# Altium footprint library micro-siemens.PCBLIB: 57 footprints (part 5 of 5)
Each footprint in its own frame and in the unit in brackets; x right, y up, seen from the top. Pads: shape width x height; smd on the part's side, far side on the other; paste and mask are expansions set on the pad; w line width, h text height; cw(c..) or ccw(c..) is an arc to the next point about the centre after c.
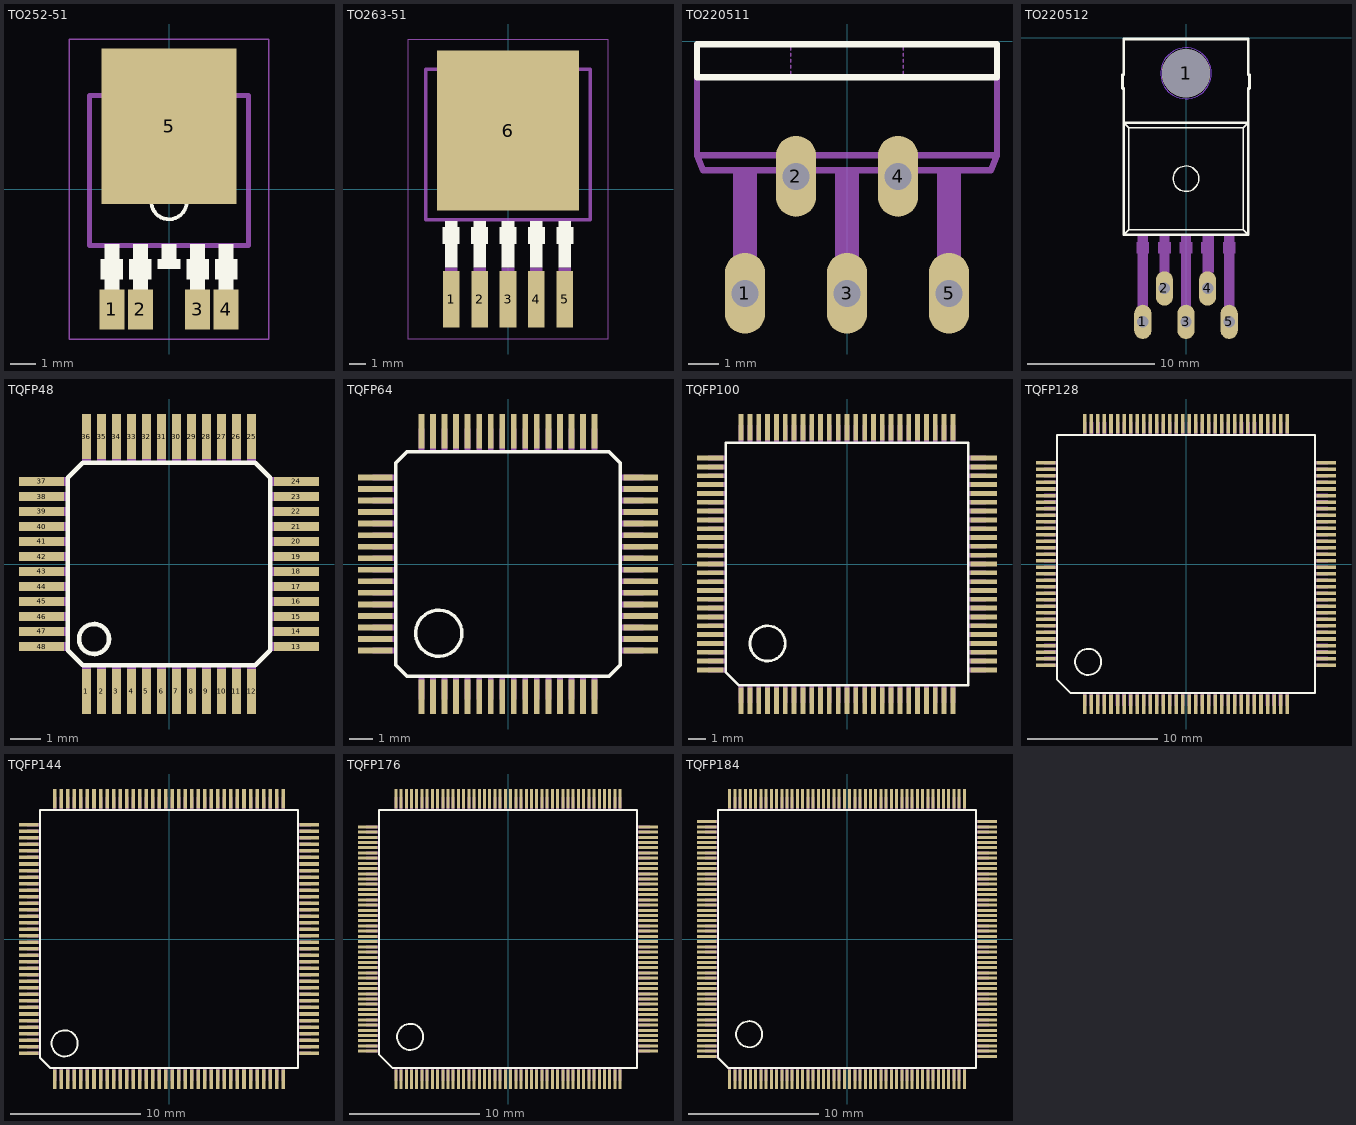
[diagram p4: the footprints below, top view; thin cyan lines are the x and y axes]

## TO252-51 [mm]
pads (5):
  rect 1x1.6 smd: 1(-2.28,-4.8) 2(-1.14,-4.8) 3(1.14,-4.8) 4(2.28,-4.8)
  rect 5.4x6.2 smd: 5(0,2.5)
Top Overlay:
  circle w0.152: c0,-0.5 r0.707
  rectangle: -0.3,-3.2 0.3,-2.2
  rectangle: -2.58,-5.05 -1.98,-2.2
  rectangle: -1.44,-5.05 -0.84,-2.2
  rectangle: 0.84,-5.05 1.44,-2.2
  rectangle: 1.98,-5.05 2.58,-2.2
  rectangle: -2.73,-3.6 -1.83,-2.8
  rectangle: -1.59,-3.6 -0.69,-2.8
  rectangle: 0.69,-3.6 1.59,-2.8
  rectangle: 1.83,-3.6 2.73,-2.8
  rectangle: -0.45,-3.2 0.45,-2.8
  region: 0,0 0.254,0 0.254,0.254 0,0.254
Mechanical 16:
  lines w0.203: -3.177,3.735 -3.177,-2.259 3.177,-2.259 3.177,3.735 -3.177,3.735
Mechanical 27:
  lines w0.051: -3.973,-5.983 3.973,-5.983 3.973,5.983 -3.973,5.983 -3.973,-5.983

## TO263-51 [mm]
pads (6):
  rect 1x3.4 smd: 1(-3.4,-6.6) 2(-1.7,-6.6) 3(0,-6.6) 4(1.7,-6.6) 5(3.4,-6.6)
  rect 8.5x9.6 smd: 6(0,3.5)
Top Overlay:
  rectangle: -0.381,-4.699 0.381,-1.905
  rectangle: -0.508,-3.302 0.508,-2.286
  rectangle: -3.781,-4.699 -3.019,-1.905
  rectangle: -2.081,-4.699 -1.319,-1.905
  rectangle: 1.319,-4.699 2.081,-1.905
  rectangle: 3.019,-4.699 3.781,-1.905
  rectangle: -3.908,-3.302 -2.892,-2.286
  rectangle: -2.208,-3.302 -1.192,-2.286
  rectangle: 1.192,-3.302 2.208,-2.286
  rectangle: 2.892,-3.302 3.908,-2.286
Mechanical 16:
  circle w0.254: c0,3 r1
  rectangle: -0.381,-7.493 0.381,-4.699
  rectangle: -3.781,-7.493 -3.019,-4.699
  rectangle: -2.081,-7.493 -1.319,-4.699
  rectangle: 1.319,-7.493 2.081,-4.699
  rectangle: 3.019,-7.493 3.781,-4.699
  region: 0,0 0.254,0 0.254,0.254 0,0.254
  lines w0.203: -4.917,-1.839 4.917,-1.839 4.917,7.165 -4.917,7.165 -4.917,-1.839
Mechanical 27:
  lines w0.051: -5.973,-8.983 5.973,-8.983 5.973,8.983 -5.973,8.983 -5.973,-8.983

## TO220511 [mm]
pads (5):
  oval 1.35x2.7 hole 0.9: 1(-3.4,-8.4) 2(-1.7,-4.5) 3(0,-8.4) 4(1.7,-4.5) 5(3.4,-8.4)
Top Overlay:
  lines w0.203: -5,-1.2 -5,-0.1 5,-0.1 5,-1.2 -5,-1.2
Mechanical 16:
  rectangle: -3.8,-8.5 -3,-7.4
  rectangle: -0.4,-8.5 0.4,-7.4
  rectangle: 3,-8.5 3.8,-7.4
  rectangle: -3.8,-7.4 -3,-4.4
  rectangle: -0.4,-7.4 0.4,-4.4
  rectangle: 3,-7.4 3.8,-4.4
  rectangle: -2.1,-4.6 -1.3,-4.4
  rectangle: 1.3,-4.6 2.1,-4.4
  lines w0.051: -1.87,-1.17 -1.87,-1 ; -1.87,-0.9 -1.87,-0.8 ; -1.87,-0.7 -1.87,-0.6 ; -1.87,-0.5 -1.87,-0.4 ; -1.87,-0.3 -1.87,-0.2 ; 1.87,-1.17 1.87,-1 ; 1.87,-0.9 1.87,-0.8 ; 1.87,-0.7 1.87,-0.6 ; 1.87,-0.5 1.87,-0.4 ; 1.87,-0.3 1.87,-0.2
  lines w0.203: -5,-1.2 -5,-3.8 ; 5,-1.2 5,-3.8 ; -5,-3.8 -4.8,-4.3 4.8,-4.3 5,-3.8 ; -5,-3.8 5,-3.8

## TO220512 [mm]
pads (6):
  oval 1.35x2.7 hole 0.9: 1(-3.4,-22.37) 2(-1.7,-19.74) 3(0,-22.37) 4(1.7,-19.74) 5(3.4,-22.37)
  round 3.8 hole 3.8: 1(0,-2.8)
Top Layer keep-out:
  circle w0: c0,-2.8 r2
Bottom Layer keep-out:
  circle w0: c0,-2.8 r2
Top Overlay:
  circle w0.102: c0,-11.1 r1.005
  lines w0.102: -4.9,-15.5 -4.5,-15.1 ; -4.8,-6.8 -4.5,-7.1 ; 4.8,-6.8 4.5,-7.1 ; 4.9,-15.5 4.5,-15.1 ; -4.5,-15.1 4.5,-15.1 ; -4.5,-15.1 -4.5,-7.1 ; -4.5,-7.1 4.5,-7.1 ; 4.5,-15.1 4.5,-7.1
  lines w0.203: -5,-4 -5,-2.9 ; -4.9,-4 -4.9,-6.7 ; -4.9,-2.9 -4.9,-0.1 4.9,-0.1 4.9,-2.9 ; 4.9,-4 4.9,-6.7 ; 5,-4 5,-2.9 ; -4.9,-6.7 -4.9,-15.5 4.9,-15.5 4.9,-6.7 ; -4.9,-6.7 4.9,-6.7
Mechanical 16:
  rectangle: -3.8,-22.27 -3,-21.07
  rectangle: -2.1,-19.67 -1.3,-18.47
  rectangle: -0.4,-22.27 0.4,-21.07
  rectangle: 1.3,-19.67 2.1,-18.47
  rectangle: 3,-22.27 3.8,-21.07
  rectangle: -3.9,-17 -2.9,-16.1
  rectangle: -2.2,-17 -1.2,-16.1
  rectangle: -0.5,-17 0.5,-16.1
  rectangle: 1.2,-17 2.2,-16.1
  rectangle: 2.9,-17 3.9,-16.1
  rectangle: -3.8,-21.1 -3,-15.6
  rectangle: -2.1,-18.5 -1.3,-15.6
  rectangle: -0.4,-21.1 0.4,-15.6
  rectangle: 1.3,-18.5 2.2,-15.6
  rectangle: 3,-21.1 3.8,-15.6
Via Holes:
  circle w0: c0,-2.8 r2.7

## TQFP48 [mm]
pads (48):
  rect 0.3x1.5 smd: 1(-2.75,-4.25) 2(-2.25,-4.25) 3(-1.75,-4.25) 4(-1.25,-4.25) 5(-0.75,-4.25) 6(-0.25,-4.25) 7(0.25,-4.25) 8(0.75,-4.25) 9(1.25,-4.25) 10(1.75,-4.25) 11(2.25,-4.25) 12(2.75,-4.25) 25(2.75,4.25) 26(2.25,4.25) 27(1.75,4.25) 28(1.25,4.25) 29(0.75,4.25) 30(0.25,4.25) 31(-0.25,4.25) 32(-0.75,4.25) 33(-1.25,4.25) 34(-1.75,4.25) 35(-2.25,4.25) 36(-2.75,4.25)
  rect 1.5x0.3 smd: 13(4.25,-2.75) 14(4.25,-2.25) 15(4.25,-1.75) 16(4.25,-1.25) 17(4.25,-0.75) 18(4.25,-0.25) 19(4.25,0.25) 20(4.25,0.75) 21(4.25,1.25) 22(4.25,1.75) 23(4.25,2.25) 24(4.25,2.75) 37(-4.25,2.75) 38(-4.25,2.25) 39(-4.25,1.75) 40(-4.25,1.25) 41(-4.25,0.75) 42(-4.25,0.25) 43(-4.25,-0.25) 44(-4.25,-0.75) 45(-4.25,-1.25) 46(-4.25,-1.75) 47(-4.25,-2.25) 48(-4.25,-2.75)
Top Overlay:
  circle w0.152: c-2.5,-2.5 r0.5
  lines w0.152: -3.373,-2.873 -2.873,-3.373 2.873,-3.373 3.373,-2.873 3.373,2.873 2.873,3.373 -2.873,3.373 -3.373,2.873 -3.373,-2.873
Mechanical 16:
  rectangle: -2.9,3.373 -2.6,4.373
  rectangle: -2.4,3.373 -2.1,4.373
  rectangle: -1.9,3.373 -1.6,4.373
  rectangle: -1.4,3.373 -1.1,4.373
  rectangle: -0.9,3.373 -0.6,4.373
  rectangle: -0.4,3.373 -0.1,4.373
  rectangle: 0.1,3.373 0.4,4.373
  rectangle: 0.6,3.373 0.9,4.373
  rectangle: 1.1,3.373 1.4,4.373
  rectangle: 1.6,3.373 1.9,4.373
  rectangle: 2.1,3.373 2.4,4.373
  rectangle: 2.6,3.373 2.9,4.373
  rectangle: 3.373,2.6 4.373,2.9
  rectangle: 3.373,2.1 4.373,2.4
  rectangle: 3.373,1.6 4.373,1.9
  rectangle: 3.373,1.1 4.373,1.4
  rectangle: 3.373,0.6 4.373,0.9
  rectangle: 3.373,0.1 4.373,0.4
  rectangle: 3.373,-0.4 4.373,-0.1
  rectangle: 3.373,-0.9 4.373,-0.6
  rectangle: 3.373,-1.4 4.373,-1.1
  rectangle: 3.373,-1.9 4.373,-1.6
  rectangle: 3.373,-2.4 4.373,-2.1
  rectangle: 3.373,-2.9 4.373,-2.6
  rectangle: 2.6,-4.373 2.9,-3.373
  rectangle: 2.1,-4.373 2.4,-3.373
  rectangle: 1.6,-4.373 1.9,-3.373
  rectangle: 1.1,-4.373 1.4,-3.373
  rectangle: 0.6,-4.373 0.9,-3.373
  rectangle: 0.1,-4.373 0.4,-3.373
  rectangle: -0.4,-4.373 -0.1,-3.373
  rectangle: -0.9,-4.373 -0.6,-3.373
  rectangle: -1.4,-4.373 -1.1,-3.373
  rectangle: -1.9,-4.373 -1.6,-3.373
  rectangle: -2.4,-4.373 -2.1,-3.373
  rectangle: -2.9,-4.373 -2.6,-3.373
  rectangle: -4.373,-2.9 -3.373,-2.6
  rectangle: -4.373,-2.4 -3.373,-2.1
  rectangle: -4.373,-1.4 -3.373,-1.1
  rectangle: -4.373,-1.9 -3.373,-1.6
  rectangle: -4.373,-0.4 -3.373,-0.1
  rectangle: -4.373,-0.9 -3.373,-0.6
  rectangle: -4.373,0.6 -3.373,0.9
  rectangle: -4.373,0.1 -3.373,0.4
  rectangle: -4.373,1.6 -3.373,1.9
  rectangle: -4.373,1.1 -3.373,1.4
  rectangle: -4.373,2.1 -3.373,2.4
  rectangle: -4.373,2.6 -3.373,2.9

## TQFP64 [mm]
pads (64):
  rect 0.25x1.5 smd: 1(-3.75,-5.75) 2(-3.25,-5.75) 3(-2.75,-5.75) 4(-2.25,-5.75) 5(-1.75,-5.75) 6(-1.25,-5.75) 7(-0.75,-5.75) 8(-0.25,-5.75) 9(0.25,-5.75) 10(0.75,-5.75) 11(1.25,-5.75) 12(1.75,-5.75) 13(2.25,-5.75) 14(2.75,-5.75) 15(3.25,-5.75) 16(3.75,-5.75) 33(3.75,5.75) 34(3.25,5.75) 35(2.75,5.75) 36(2.25,5.75) 37(1.75,5.75) 38(1.25,5.75) 39(0.75,5.75) 40(0.25,5.75) 41(-0.25,5.75) 42(-0.75,5.75) 43(-1.25,5.75) 44(-1.75,5.75) 45(-2.25,5.75) 46(-2.75,5.75) 47(-3.25,5.75) 48(-3.75,5.75)
  rect 1.5x0.25 smd: 17(5.75,-3.75) 18(5.75,-3.25) 19(5.75,-2.75) 20(5.75,-2.25) 21(5.75,-1.75) 22(5.75,-1.25) 23(5.75,-0.75) 24(5.75,-0.25) 25(5.75,0.25) 26(5.75,0.75) 27(5.75,1.25) 28(5.75,1.75) 29(5.75,2.25) 30(5.75,2.75) 31(5.75,3.25) 32(5.75,3.75) 49(-5.75,3.75) 50(-5.75,3.25) 51(-5.75,2.75) 52(-5.75,2.25) 53(-5.75,1.75) 54(-5.75,1.25) 55(-5.75,0.75) 56(-5.75,0.25) 57(-5.75,-0.25) 58(-5.75,-0.75) 59(-5.75,-1.25) 60(-5.75,-1.75) 61(-5.75,-2.25) 62(-5.75,-2.75) 63(-5.75,-3.25) 64(-5.75,-3.75)
Top Overlay:
  circle w0.152: c-3,-3 r1
  lines w0.152: -4.873,-4.373 -4.373,-4.873 4.373,-4.873 4.873,-4.373 4.873,4.373 4.373,4.873 -4.373,4.873 -4.873,4.373 -4.873,-4.373
Mechanical 16:
  rectangle: -3.875,4.873 -3.625,5.873
  rectangle: -3.375,4.873 -3.125,5.873
  rectangle: -2.875,4.873 -2.625,5.873
  rectangle: -2.375,4.873 -2.125,5.873
  rectangle: -1.875,4.873 -1.625,5.873
  rectangle: -1.375,4.873 -1.125,5.873
  rectangle: -0.875,4.873 -0.625,5.873
  rectangle: -0.375,4.873 -0.125,5.873
  rectangle: 0.125,4.873 0.375,5.873
  rectangle: 0.625,4.873 0.875,5.873
  rectangle: 1.125,4.873 1.375,5.873
  rectangle: 1.625,4.873 1.875,5.873
  rectangle: 2.125,4.873 2.375,5.873
  rectangle: 2.625,4.873 2.875,5.873
  rectangle: 3.125,4.873 3.375,5.873
  rectangle: 3.625,4.873 3.875,5.873
  rectangle: 4.873,3.625 5.873,3.875
  rectangle: 4.873,3.125 5.873,3.375
  rectangle: 4.873,2.625 5.873,2.875
  rectangle: 4.873,2.125 5.873,2.375
  rectangle: 4.873,1.625 5.873,1.875
  rectangle: 4.873,1.125 5.873,1.375
  rectangle: 4.873,0.625 5.873,0.875
  rectangle: 4.873,0.125 5.873,0.375
  rectangle: 4.873,-0.375 5.873,-0.125
  rectangle: 4.873,-0.875 5.873,-0.625
  rectangle: 4.873,-1.375 5.873,-1.125
  rectangle: 4.873,-1.875 5.873,-1.625
  rectangle: 4.873,-2.375 5.873,-2.125
  rectangle: 4.873,-2.875 5.873,-2.625
  rectangle: 4.873,-3.375 5.873,-3.125
  rectangle: 4.873,-3.875 5.873,-3.625
  rectangle: 3.625,-5.873 3.875,-4.873
  rectangle: 3.125,-5.873 3.375,-4.873
  rectangle: 2.625,-5.873 2.875,-4.873
  rectangle: 2.125,-5.873 2.375,-4.873
  rectangle: 1.625,-5.873 1.875,-4.873
  rectangle: 1.125,-5.873 1.375,-4.873
  rectangle: 0.625,-5.873 0.875,-4.873
  rectangle: 0.125,-5.873 0.375,-4.873
  rectangle: -0.375,-5.873 -0.125,-4.873
  rectangle: -0.875,-5.873 -0.625,-4.873
  rectangle: -1.375,-5.873 -1.125,-4.873
  rectangle: -1.875,-5.873 -1.625,-4.873
  rectangle: -2.375,-5.873 -2.125,-4.873
  rectangle: -2.875,-5.873 -2.625,-4.873
  rectangle: -3.375,-5.873 -3.125,-4.873
  rectangle: -3.875,-5.873 -3.625,-4.873
  rectangle: -5.873,-3.875 -4.873,-3.625
  rectangle: -5.873,-3.375 -4.873,-3.125
  rectangle: -5.873,-2.875 -4.873,-2.625
  rectangle: -5.873,-2.375 -4.873,-2.125
  rectangle: -5.873,-1.875 -4.873,-1.625
  rectangle: -5.873,-1.375 -4.873,-1.125
  rectangle: -5.873,-0.875 -4.873,-0.625
  rectangle: -5.873,-0.375 -4.873,-0.125
  rectangle: -5.873,0.125 -4.873,0.375
  rectangle: -5.873,0.625 -4.873,0.875
  rectangle: -5.873,2.125 -4.873,2.375
  rectangle: -5.873,1.625 -4.873,1.875
  rectangle: -5.873,1.125 -4.873,1.375
  rectangle: -5.873,3.625 -4.873,3.875
  rectangle: -5.873,3.125 -4.873,3.375
  rectangle: -5.873,2.625 -4.873,2.875

## TQFP100 [mm]
pads (100):
  rect 0.27x1.5 smd: 1(-6,-7.75) 2(-5.5,-7.75) 3(-5,-7.75) 4(-4.5,-7.75) 5(-4,-7.75) 6(-3.5,-7.75) 7(-3,-7.75) 8(-2.5,-7.75) 9(-2,-7.75) 10(-1.5,-7.75) 11(-1,-7.75) 12(-0.5,-7.75) 13(0,-7.75) 14(0.5,-7.75) 15(1,-7.75) 16(1.5,-7.75) 17(2,-7.75) 18(2.5,-7.75) 19(3,-7.75) 20(3.5,-7.75) 21(4,-7.75) 22(4.5,-7.75) 23(5,-7.75) 24(5.5,-7.75) 25(6,-7.75) 51(6,7.75) 52(5.5,7.75) 53(5,7.75) 54(4.5,7.75) 55(4,7.75) 56(3.5,7.75) 57(3,7.75) 58(2.5,7.75) 59(2,7.75) 60(1.5,7.75) 61(1,7.75) 62(0.5,7.75) 63(0,7.75) 64(-0.5,7.75) 65(-1,7.75) 66(-1.5,7.75) 67(-2,7.75) 68(-2.5,7.75) 69(-3,7.75) 70(-3.5,7.75) 71(-4,7.75) 72(-4.5,7.75) 73(-5,7.75) 74(-5.5,7.75) 75(-6,7.75)
  rect 1.5x0.27 smd: 26(7.75,-6) 27(7.75,-5.5) 28(7.75,-5) 29(7.75,-4.5) 30(7.75,-4) 31(7.75,-3.5) 32(7.75,-3) 33(7.75,-2.5) 34(7.75,-2) 35(7.75,-1.5) 36(7.75,-1) 37(7.75,-0.5) 38(7.75,0) 39(7.75,0.5) 40(7.75,1) 41(7.75,1.5) 42(7.75,2) 43(7.75,2.5) 44(7.75,3) 45(7.75,3.5) 46(7.75,4) 47(7.75,4.5) 48(7.75,5) 49(7.75,5.5) 50(7.75,6) 76(-7.75,6) 77(-7.75,5.5) 78(-7.75,5) 79(-7.75,4.5) 80(-7.75,4) 81(-7.75,3.5) 82(-7.75,3) 83(-7.75,2.5) 84(-7.75,2) 85(-7.75,1.5) 86(-7.75,1) 87(-7.75,0.5) 88(-7.75,0) 89(-7.75,-0.5) 90(-7.75,-1) 91(-7.75,-1.5) 92(-7.75,-2) 93(-7.75,-2.5) 94(-7.75,-3) 95(-7.75,-3.5) 96(-7.75,-4) 97(-7.75,-4.5) 98(-7.75,-5) 99(-7.75,-5.5) 100(-7.75,-6)
Top Overlay:
  circle w0.152: c-4.5,-4.5 r1
  lines w0.152: -6.873,-6.123 -6.123,-6.873 6.873,-6.873 6.873,6.873 -6.873,6.873 -6.873,-6.123
Mechanical 16:
  rectangle: -6.135,6.868 -5.865,7.873
  rectangle: -5.635,6.868 -5.365,7.873
  rectangle: -5.135,6.868 -4.865,7.873
  rectangle: -4.635,6.868 -4.365,7.873
  rectangle: -4.135,6.868 -3.865,7.873
  rectangle: -3.635,6.868 -3.365,7.873
  rectangle: -3.135,6.868 -2.865,7.873
  rectangle: -2.635,6.868 -2.365,7.873
  rectangle: -2.135,6.868 -1.865,7.873
  rectangle: -1.635,6.868 -1.365,7.873
  rectangle: -1.135,6.868 -0.865,7.873
  rectangle: -0.635,6.868 -0.365,7.873
  rectangle: -0.135,6.868 0.135,7.873
  rectangle: 0.365,6.868 0.635,7.873
  rectangle: 0.865,6.868 1.135,7.873
  rectangle: 1.365,6.868 1.635,7.873
  rectangle: 1.865,6.868 2.135,7.873
  rectangle: 2.365,6.868 2.635,7.873
  rectangle: 2.865,6.868 3.135,7.873
  rectangle: 3.365,6.868 3.635,7.873
  rectangle: 3.865,6.868 4.135,7.873
  rectangle: 4.365,6.868 4.635,7.873
  rectangle: 4.865,6.868 5.135,7.873
  rectangle: 5.365,6.868 5.635,7.873
  rectangle: 5.865,6.868 6.135,7.873
  rectangle: 6.873,5.865 7.878,6.135
  rectangle: 6.873,5.365 7.878,5.635
  rectangle: 6.873,4.865 7.878,5.135
  rectangle: 6.873,4.365 7.878,4.635
  rectangle: 6.873,3.865 7.878,4.135
  rectangle: 6.873,3.365 7.878,3.635
  rectangle: 6.873,2.865 7.878,3.135
  rectangle: 6.873,2.365 7.878,2.635
  rectangle: 6.873,1.865 7.878,2.135
  rectangle: 6.873,1.365 7.878,1.635
  rectangle: 6.873,0.865 7.878,1.135
  rectangle: 6.873,0.365 7.878,0.635
  rectangle: 6.873,-0.135 7.878,0.135
  rectangle: 6.873,-0.635 7.878,-0.365
  rectangle: 6.873,-1.135 7.878,-0.865
  rectangle: 6.873,-1.635 7.878,-1.365
  rectangle: 6.873,-2.135 7.878,-1.865
  rectangle: 6.873,-2.635 7.878,-2.365
  rectangle: 6.873,-3.135 7.878,-2.865
  rectangle: 6.873,-3.635 7.878,-3.365
  rectangle: 6.873,-4.135 7.878,-3.865
  rectangle: 6.873,-4.635 7.878,-4.365
  rectangle: 6.873,-5.135 7.878,-4.865
  rectangle: 6.873,-5.635 7.878,-5.365
  rectangle: 6.873,-6.135 7.878,-5.865
  rectangle: 5.865,-7.873 6.135,-6.868
  rectangle: 5.365,-7.873 5.635,-6.868
  rectangle: 4.865,-7.873 5.135,-6.868
  rectangle: 4.365,-7.873 4.635,-6.868
  rectangle: 3.865,-7.873 4.135,-6.868
  rectangle: 3.365,-7.873 3.635,-6.868
  rectangle: 2.865,-7.873 3.135,-6.868
  rectangle: 2.365,-7.873 2.635,-6.868
  rectangle: 1.865,-7.873 2.135,-6.868
  rectangle: 1.365,-7.873 1.635,-6.868
  rectangle: 0.865,-7.873 1.135,-6.868
  rectangle: 0.365,-7.873 0.635,-6.868
  rectangle: -0.135,-7.873 0.135,-6.868
  rectangle: -0.635,-7.873 -0.365,-6.868
  rectangle: -1.135,-7.873 -0.865,-6.868
  rectangle: -1.635,-7.873 -1.365,-6.868
  rectangle: -2.135,-7.873 -1.865,-6.868
  rectangle: -2.635,-7.873 -2.365,-6.868
  rectangle: -3.135,-7.873 -2.865,-6.868
  rectangle: -3.635,-7.873 -3.365,-6.868
  rectangle: -4.135,-7.873 -3.865,-6.868
  rectangle: -4.635,-7.873 -4.365,-6.868
  rectangle: -5.135,-7.873 -4.865,-6.868
  rectangle: -5.635,-7.873 -5.365,-6.868
  rectangle: -6.135,-7.873 -5.865,-6.868
  rectangle: -7.878,-6.135 -6.873,-5.865
  rectangle: -7.878,-5.635 -6.873,-5.365
  rectangle: -7.878,-5.135 -6.873,-4.865
  rectangle: -7.878,-4.635 -6.873,-4.365
  rectangle: -7.878,-4.135 -6.873,-3.865
  rectangle: -7.878,-3.635 -6.873,-3.365
  rectangle: -7.878,-3.135 -6.873,-2.865
  rectangle: -7.878,-2.635 -6.873,-2.365
  rectangle: -7.878,-2.135 -6.873,-1.865
  rectangle: -7.878,-1.635 -6.873,-1.365
  rectangle: -7.878,-1.135 -6.873,-0.865
  rectangle: -7.878,-0.635 -6.873,-0.365
  rectangle: -7.878,-0.135 -6.873,0.135
  rectangle: -7.878,0.365 -6.873,0.635
  rectangle: -7.878,0.865 -6.873,1.135
  rectangle: -7.878,1.365 -6.873,1.635
  rectangle: -7.878,1.865 -6.873,2.135
  rectangle: -7.878,2.365 -6.873,2.635
  rectangle: -7.878,2.865 -6.873,3.135
  rectangle: -7.878,3.365 -6.873,3.635
  rectangle: -7.878,3.865 -6.873,4.135
  rectangle: -7.878,4.365 -6.873,4.635
  rectangle: -7.878,4.865 -6.873,5.135
  rectangle: -7.878,5.365 -6.873,5.635
  rectangle: -7.878,5.865 -6.873,6.135

## TQFP128 [mm]
pads (128):
  rect 0.27x1.5 smd: 1(-7.75,-10.75) 2(-7.25,-10.75) 3(-6.75,-10.75) 4(-6.25,-10.75) 5(-5.75,-10.75) 6(-5.25,-10.75) 7(-4.75,-10.75) 8(-4.25,-10.75) 9(-3.75,-10.75) 10(-3.25,-10.75) 11(-2.75,-10.75) 12(-2.25,-10.75) 13(-1.75,-10.75) 14(-1.25,-10.75) 15(-0.75,-10.75) 16(-0.25,-10.75) 17(0.25,-10.75) 18(0.75,-10.75) 19(1.25,-10.75) 20(1.75,-10.75) 21(2.25,-10.75) 22(2.75,-10.75) 23(3.25,-10.75) 24(3.75,-10.75) 25(4.25,-10.75) 26(4.75,-10.75) 27(5.25,-10.75) 28(5.75,-10.75) 29(6.25,-10.75) 30(6.75,-10.75) 31(7.25,-10.75) 32(7.75,-10.75) 65(7.75,10.75) 66(7.25,10.75) 67(6.75,10.75) 68(6.25,10.75) 69(5.75,10.75) 70(5.25,10.75) 71(4.75,10.75) 72(4.25,10.75) 73(3.75,10.75) 74(3.25,10.75) 75(2.75,10.75) 76(2.25,10.75) 77(1.75,10.75) 78(1.25,10.75) 79(0.75,10.75) 80(0.25,10.75) 81(-0.25,10.75) 82(-0.75,10.75) 83(-1.25,10.75) 84(-1.75,10.75) 85(-2.25,10.75) 86(-2.75,10.75) 87(-3.25,10.75) 88(-3.75,10.75) 89(-4.25,10.75) 90(-4.75,10.75) 91(-5.25,10.75) 92(-5.75,10.75) 93(-6.25,10.75) 94(-6.75,10.75) 95(-7.25,10.75) 96(-7.75,10.75)
  rect 1.5x0.27 smd: 33(10.75,-7.75) 34(10.75,-7.25) 35(10.75,-6.75) 36(10.75,-6.25) 37(10.75,-5.75) 38(10.75,-5.25) 39(10.75,-4.75) 40(10.75,-4.25) 41(10.75,-3.75) 42(10.75,-3.25) 43(10.75,-2.75) 44(10.75,-2.25) 45(10.75,-1.75) 46(10.75,-1.25) 47(10.75,-0.75) 48(10.75,-0.25) 49(10.75,0.25) 50(10.75,0.75) 51(10.75,1.25) 52(10.75,1.75) 53(10.75,2.25) 54(10.75,2.75) 55(10.75,3.25) 56(10.75,3.75) 57(10.75,4.25) 58(10.75,4.75) 59(10.75,5.25) 60(10.75,5.75) 61(10.75,6.25) 62(10.75,6.75) 63(10.75,7.25) 64(10.75,7.75) 97(-10.75,7.75) 98(-10.75,7.25) 99(-10.75,6.75) 100(-10.75,6.25) 101(-10.75,5.75) 102(-10.75,5.25) 103(-10.75,4.75) 104(-10.75,4.25) 105(-10.75,3.75) 106(-10.75,3.25) 107(-10.75,2.75) 108(-10.75,2.25) 109(-10.75,1.75) 110(-10.75,1.25) 111(-10.75,0.75) 112(-10.75,0.25) 113(-10.75,-0.25) 114(-10.75,-0.75) 115(-10.75,-1.25) 116(-10.75,-1.75) 117(-10.75,-2.25) 118(-10.75,-2.75) 119(-10.75,-3.25) 120(-10.75,-3.75) 121(-10.75,-4.25) 122(-10.75,-4.75) 123(-10.75,-5.25) 124(-10.75,-5.75) 125(-10.75,-6.25) 126(-10.75,-6.75) 127(-10.75,-7.25) 128(-10.75,-7.75)
Top Overlay:
  circle w0.152: c-7.5,-7.5 r1
  lines w0.152: -9.873,-8.873 -8.873,-9.873 9.873,-9.873 9.873,9.873 -9.873,9.873 -9.873,-8.873
Mechanical 16:
  rectangle: -7.885,9.868 -7.61,10.873
  rectangle: -7.385,9.868 -7.11,10.873
  rectangle: -6.885,9.868 -6.61,10.873
  rectangle: -6.385,9.868 -6.11,10.873
  rectangle: -5.885,9.868 -5.61,10.873
  rectangle: -5.385,9.868 -5.11,10.873
  rectangle: -4.885,9.868 -4.61,10.873
  rectangle: -4.385,9.868 -4.11,10.873
  rectangle: -3.885,9.868 -3.61,10.873
  rectangle: -3.385,9.868 -3.11,10.873
  rectangle: -2.885,9.868 -2.61,10.873
  rectangle: -2.385,9.868 -2.11,10.873
  rectangle: -1.885,9.868 -1.61,10.873
  rectangle: -1.385,9.868 -1.11,10.873
  rectangle: -0.885,9.868 -0.61,10.873
  rectangle: -0.385,9.868 -0.11,10.873
  rectangle: 0.115,9.868 0.39,10.873
  rectangle: 0.615,9.868 0.89,10.873
  rectangle: 1.115,9.868 1.39,10.873
  rectangle: 1.615,9.868 1.89,10.873
  rectangle: 2.115,9.868 2.39,10.873
  rectangle: 2.615,9.868 2.89,10.873
  rectangle: 3.115,9.868 3.39,10.873
  rectangle: 3.615,9.868 3.89,10.873
  rectangle: 4.115,9.868 4.39,10.873
  rectangle: 4.615,9.868 4.89,10.873
  rectangle: 5.115,9.868 5.39,10.873
  rectangle: 5.615,9.868 5.89,10.873
  rectangle: 6.115,9.868 6.39,10.873
  rectangle: 6.615,9.868 6.89,10.873
  rectangle: 7.115,9.868 7.39,10.873
  rectangle: 7.615,9.868 7.89,10.873
  rectangle: 9.873,7.615 10.878,7.89
  rectangle: 9.873,7.115 10.878,7.39
  rectangle: 9.873,6.615 10.878,6.89
  rectangle: 9.873,6.115 10.878,6.39
  rectangle: 9.873,5.615 10.878,5.89
  rectangle: 9.873,5.115 10.878,5.39
  rectangle: 9.873,4.615 10.878,4.89
  rectangle: 9.873,4.115 10.878,4.39
  rectangle: 9.873,3.615 10.878,3.89
  rectangle: 9.873,3.115 10.878,3.39
  rectangle: 9.873,2.615 10.878,2.89
  rectangle: 9.873,2.115 10.878,2.39
  rectangle: 9.873,1.615 10.878,1.89
  rectangle: 9.873,1.115 10.878,1.39
  rectangle: 9.873,0.615 10.878,0.89
  rectangle: 9.873,0.115 10.878,0.39
  rectangle: 9.873,-0.385 10.878,-0.11
  rectangle: 9.873,-0.885 10.878,-0.61
  rectangle: 9.873,-1.385 10.878,-1.11
  rectangle: 9.873,-1.885 10.878,-1.61
  rectangle: 9.873,-2.385 10.878,-2.11
  rectangle: 9.873,-2.885 10.878,-2.61
  rectangle: 9.873,-3.385 10.878,-3.11
  rectangle: 9.873,-3.885 10.878,-3.61
  rectangle: 9.873,-4.385 10.878,-4.11
  rectangle: 9.873,-4.885 10.878,-4.61
  rectangle: 9.873,-5.385 10.878,-5.11
  rectangle: 9.873,-5.885 10.878,-5.61
  rectangle: 9.873,-6.385 10.878,-6.11
  rectangle: 9.873,-6.885 10.878,-6.61
  rectangle: 9.873,-7.385 10.878,-7.11
  rectangle: 9.873,-7.885 10.878,-7.61
  rectangle: -10.873,7.615 -9.868,7.89
  rectangle: -10.873,7.115 -9.868,7.39
  rectangle: -10.873,6.615 -9.868,6.89
  rectangle: -10.873,6.115 -9.868,6.39
  rectangle: -10.873,5.615 -9.868,5.89
  rectangle: -10.873,5.115 -9.868,5.39
  rectangle: -10.873,4.615 -9.868,4.89
  rectangle: -10.873,4.115 -9.868,4.39
  rectangle: -10.873,3.615 -9.868,3.89
  rectangle: -10.873,3.115 -9.868,3.39
  rectangle: -10.873,2.615 -9.868,2.89
  rectangle: -10.873,2.115 -9.868,2.39
  rectangle: -10.873,1.615 -9.868,1.89
  rectangle: -10.873,1.115 -9.868,1.39
  rectangle: -10.873,0.615 -9.868,0.89
  rectangle: -10.873,0.115 -9.868,0.39
  rectangle: -10.873,-0.385 -9.868,-0.11
  rectangle: -10.873,-0.885 -9.868,-0.61
  rectangle: -10.873,-1.385 -9.868,-1.11
  rectangle: -10.873,-1.885 -9.868,-1.61
  rectangle: -10.873,-2.385 -9.868,-2.11
  rectangle: -10.873,-2.885 -9.868,-2.61
  rectangle: -10.873,-3.385 -9.868,-3.11
  rectangle: -10.873,-3.885 -9.868,-3.61
  rectangle: -10.873,-4.385 -9.868,-4.11
  rectangle: -10.873,-4.885 -9.868,-4.61
  rectangle: -10.873,-5.385 -9.868,-5.11
  rectangle: -10.873,-5.885 -9.868,-5.61
  rectangle: -10.873,-6.385 -9.868,-6.11
  rectangle: -10.873,-6.885 -9.868,-6.61
  rectangle: -10.873,-7.385 -9.868,-7.11
  rectangle: -10.873,-7.885 -9.868,-7.61
  rectangle: -7.89,-10.873 -7.615,-9.868
  rectangle: -7.39,-10.873 -7.115,-9.868
  rectangle: -6.89,-10.873 -6.615,-9.868
  rectangle: -6.39,-10.873 -6.115,-9.868
  rectangle: -5.89,-10.873 -5.615,-9.868
  rectangle: -5.39,-10.873 -5.115,-9.868
  rectangle: -4.89,-10.873 -4.615,-9.868
  rectangle: -4.39,-10.873 -4.115,-9.868
  rectangle: -3.89,-10.873 -3.615,-9.868
  rectangle: -3.39,-10.873 -3.115,-9.868
  rectangle: -2.89,-10.873 -2.615,-9.868
  rectangle: -2.39,-10.873 -2.115,-9.868
  rectangle: -1.89,-10.873 -1.615,-9.868
  rectangle: -1.39,-10.873 -1.115,-9.868
  rectangle: -0.89,-10.873 -0.615,-9.868
  rectangle: -0.39,-10.873 -0.115,-9.868
  rectangle: 0.11,-10.873 0.385,-9.868
  rectangle: 0.61,-10.873 0.885,-9.868
  rectangle: 1.11,-10.873 1.385,-9.868
  rectangle: 1.61,-10.873 1.885,-9.868
  rectangle: 2.11,-10.873 2.385,-9.868
  rectangle: 2.61,-10.873 2.885,-9.868
  rectangle: 3.11,-10.873 3.385,-9.868
  rectangle: 3.61,-10.873 3.885,-9.868
  rectangle: 4.11,-10.873 4.385,-9.868
  rectangle: 4.61,-10.873 4.885,-9.868
  rectangle: 5.11,-10.873 5.385,-9.868
  rectangle: 5.61,-10.873 5.885,-9.868
  rectangle: 6.11,-10.873 6.385,-9.868
  rectangle: 6.61,-10.873 6.885,-9.868
  rectangle: 7.11,-10.873 7.385,-9.868
  rectangle: 7.61,-10.873 7.885,-9.868

## TQFP144 [mm]
pads (144):
  rect 0.27x1.5 smd: 1(-8.75,-10.75) 2(-8.25,-10.75) 3(-7.75,-10.75) 4(-7.25,-10.75) 5(-6.75,-10.75) 6(-6.25,-10.75) 7(-5.75,-10.75) 8(-5.25,-10.75) 9(-4.75,-10.75) 10(-4.25,-10.75) 11(-3.75,-10.75) 12(-3.25,-10.75) 13(-2.75,-10.75) 14(-2.25,-10.75) 15(-1.75,-10.75) 16(-1.25,-10.75) 17(-0.75,-10.75) 18(-0.25,-10.75) 19(0.25,-10.75) 20(0.75,-10.75) 21(1.25,-10.75) 22(1.75,-10.75) 23(2.25,-10.75) 24(2.75,-10.75) 25(3.25,-10.75) 26(3.75,-10.75) 27(4.25,-10.75) 28(4.75,-10.75) 29(5.25,-10.75) 30(5.75,-10.75) 31(6.25,-10.75) 32(6.75,-10.75) 33(7.25,-10.75) 34(7.75,-10.75) 35(8.25,-10.75) 36(8.75,-10.75) 73(8.75,10.75) 74(8.25,10.75) 75(7.75,10.75) 76(7.25,10.75) 77(6.75,10.75) 78(6.25,10.75) 79(5.75,10.75) 80(5.25,10.75) 81(4.75,10.75) 82(4.25,10.75) 83(3.75,10.75) 84(3.25,10.75) 85(2.75,10.75) 86(2.25,10.75) 87(1.75,10.75) 88(1.25,10.75) 89(0.75,10.75) 90(0.25,10.75) 91(-0.25,10.75) 92(-0.75,10.75) 93(-1.25,10.75) 94(-1.75,10.75) 95(-2.25,10.75) 96(-2.75,10.75) 97(-3.25,10.75) 98(-3.75,10.75) 99(-4.25,10.75) 100(-4.75,10.75) 101(-5.25,10.75) 102(-5.75,10.75) 103(-6.25,10.75) 104(-6.75,10.75) 105(-7.25,10.75) 106(-7.75,10.75) 107(-8.25,10.75) 108(-8.75,10.75)
  rect 1.5x0.27 smd: 37(10.75,-8.75) 38(10.75,-8.25) 39(10.75,-7.75) 40(10.75,-7.25) 41(10.75,-6.75) 42(10.75,-6.25) 43(10.75,-5.75) 44(10.75,-5.25) 45(10.75,-4.75) 46(10.75,-4.25) 47(10.75,-3.75) 48(10.75,-3.25) 49(10.75,-2.75) 50(10.75,-2.25) 51(10.75,-1.75) 52(10.75,-1.25) 53(10.75,-0.75) 54(10.75,-0.25) 55(10.75,0.25) 56(10.75,0.75) 57(10.75,1.25) 58(10.75,1.75) 59(10.75,2.25) 60(10.75,2.75) 61(10.75,3.25) 62(10.75,3.75) 63(10.75,4.25) 64(10.75,4.75) 65(10.75,5.25) 66(10.75,5.75) 67(10.75,6.25) 68(10.75,6.75) 69(10.75,7.25) 70(10.75,7.75) 71(10.75,8.25) 72(10.75,8.75) 109(-10.75,8.75) 110(-10.75,8.25) 111(-10.75,7.75) 112(-10.75,7.25) 113(-10.75,6.75) 114(-10.75,6.25) 115(-10.75,5.75) 116(-10.75,5.25) 117(-10.75,4.75) 118(-10.75,4.25) 119(-10.75,3.75) 120(-10.75,3.25) 121(-10.75,2.75) 122(-10.75,2.25) 123(-10.75,1.75) 124(-10.75,1.25) 125(-10.75,0.75) 126(-10.75,0.25) 127(-10.75,-0.25) 128(-10.75,-0.75) 129(-10.75,-1.25) 130(-10.75,-1.75) 131(-10.75,-2.25) 132(-10.75,-2.75) 133(-10.75,-3.25) 134(-10.75,-3.75) 135(-10.75,-4.25) 136(-10.75,-4.75) 137(-10.75,-5.25) 138(-10.75,-5.75) 139(-10.75,-6.25) 140(-10.75,-6.75) 141(-10.75,-7.25) 142(-10.75,-7.75) 143(-10.75,-8.25) 144(-10.75,-8.75)
Top Overlay:
  circle w0.152: c-8,-8 r1
  lines w0.152: -9.873,-9.123 -9.123,-9.873 9.873,-9.873 9.873,9.873 -9.873,9.873 -9.873,-9.123
Mechanical 16:
  rectangle: -8.885,9.87 -8.615,10.873
  rectangle: -8.385,9.87 -8.115,10.873
  rectangle: -7.885,9.87 -7.615,10.873
  rectangle: -7.385,9.87 -7.115,10.873
  rectangle: -6.885,9.87 -6.615,10.873
  rectangle: -6.385,9.87 -6.115,10.873
  rectangle: -5.885,9.87 -5.615,10.873
  rectangle: -5.385,9.87 -5.115,10.873
  rectangle: -4.885,9.87 -4.615,10.873
  rectangle: -4.385,9.87 -4.115,10.873
  rectangle: -3.885,9.87 -3.615,10.873
  rectangle: -3.385,9.87 -3.115,10.873
  rectangle: -2.885,9.87 -2.615,10.873
  rectangle: -2.385,9.87 -2.115,10.873
  rectangle: -1.885,9.87 -1.615,10.873
  rectangle: -1.385,9.87 -1.115,10.873
  rectangle: -0.885,9.87 -0.615,10.873
  rectangle: -0.385,9.87 -0.115,10.873
  rectangle: 0.115,9.87 0.385,10.873
  rectangle: 0.615,9.87 0.885,10.873
  rectangle: 1.115,9.87 1.385,10.873
  rectangle: 1.615,9.87 1.885,10.873
  rectangle: 2.115,9.87 2.385,10.873
  rectangle: 2.615,9.87 2.885,10.873
  rectangle: 3.115,9.87 3.385,10.873
  rectangle: 3.615,9.87 3.885,10.873
  rectangle: 4.115,9.87 4.385,10.873
  rectangle: 4.615,9.87 4.885,10.873
  rectangle: 5.115,9.87 5.385,10.873
  rectangle: 5.615,9.87 5.885,10.873
  rectangle: 6.115,9.87 6.385,10.873
  rectangle: 6.615,9.87 6.885,10.873
  rectangle: 7.115,9.87 7.385,10.873
  rectangle: 7.615,9.87 7.885,10.873
  rectangle: 8.115,9.87 8.385,10.873
  rectangle: 8.615,9.87 8.885,10.873
  rectangle: -8.885,-10.876 -8.615,-9.873
  rectangle: -8.385,-10.876 -8.115,-9.873
  rectangle: -7.885,-10.876 -7.615,-9.873
  rectangle: -7.385,-10.876 -7.115,-9.873
  rectangle: -6.885,-10.876 -6.615,-9.873
  rectangle: -6.385,-10.876 -6.115,-9.873
  rectangle: -5.885,-10.876 -5.615,-9.873
  rectangle: -5.385,-10.876 -5.115,-9.873
  rectangle: -4.885,-10.876 -4.615,-9.873
  rectangle: -4.385,-10.876 -4.115,-9.873
  rectangle: -3.885,-10.876 -3.615,-9.873
  rectangle: -3.385,-10.876 -3.115,-9.873
  rectangle: -2.885,-10.876 -2.615,-9.873
  rectangle: -2.385,-10.876 -2.115,-9.873
  rectangle: -1.885,-10.876 -1.615,-9.873
  rectangle: -1.385,-10.876 -1.115,-9.873
  rectangle: -0.885,-10.876 -0.615,-9.873
  rectangle: -0.385,-10.876 -0.115,-9.873
  rectangle: 0.115,-10.876 0.385,-9.873
  rectangle: 0.615,-10.876 0.885,-9.873
  rectangle: 1.115,-10.876 1.385,-9.873
  rectangle: 1.615,-10.876 1.885,-9.873
  rectangle: 2.115,-10.876 2.385,-9.873
  rectangle: 2.615,-10.876 2.885,-9.873
  rectangle: 3.115,-10.876 3.385,-9.873
  rectangle: 3.615,-10.876 3.885,-9.873
  rectangle: 4.115,-10.876 4.385,-9.873
  rectangle: 4.615,-10.876 4.885,-9.873
  rectangle: 5.115,-10.876 5.385,-9.873
  rectangle: 5.615,-10.876 5.885,-9.873
  rectangle: 6.115,-10.876 6.385,-9.873
  rectangle: 6.615,-10.876 6.885,-9.873
  rectangle: 7.115,-10.876 7.385,-9.873
  rectangle: 7.615,-10.876 7.885,-9.873
  rectangle: 8.115,-10.876 8.385,-9.873
  rectangle: 8.615,-10.876 8.885,-9.873
  rectangle: 9.873,-8.885 10.876,-8.615
  rectangle: 9.873,-8.385 10.876,-8.115
  rectangle: 9.873,-7.885 10.876,-7.615
  rectangle: 9.873,-7.385 10.876,-7.115
  rectangle: 9.873,-6.885 10.876,-6.615
  rectangle: 9.873,-6.385 10.876,-6.115
  rectangle: 9.873,-5.885 10.876,-5.615
  rectangle: 9.873,-5.385 10.876,-5.115
  rectangle: 9.873,-4.885 10.876,-4.615
  rectangle: 9.873,-4.385 10.876,-4.115
  rectangle: 9.873,-3.885 10.876,-3.615
  rectangle: 9.873,-3.385 10.876,-3.115
  rectangle: 9.873,-2.885 10.876,-2.615
  rectangle: 9.873,-2.385 10.876,-2.115
  rectangle: 9.873,-1.885 10.876,-1.615
  rectangle: 9.873,-1.385 10.876,-1.115
  rectangle: 9.873,-0.885 10.876,-0.615
  rectangle: 9.873,-0.385 10.876,-0.115
  rectangle: 9.873,0.115 10.876,0.385
  rectangle: 9.873,0.615 10.876,0.885
  rectangle: 9.873,1.115 10.876,1.385
  rectangle: 9.873,1.615 10.876,1.885
  rectangle: 9.873,2.115 10.876,2.385
  rectangle: 9.873,2.615 10.876,2.885
  rectangle: 9.873,3.115 10.876,3.385
  rectangle: 9.873,3.615 10.876,3.885
  rectangle: 9.873,4.115 10.876,4.385
  rectangle: 9.873,4.615 10.876,4.885
  rectangle: 9.873,5.115 10.876,5.385
  rectangle: 9.873,5.615 10.876,5.885
  rectangle: 9.873,6.115 10.876,6.385
  rectangle: 9.873,6.615 10.876,6.885
  rectangle: 9.873,7.115 10.876,7.385
  rectangle: 9.873,7.615 10.876,7.885
  rectangle: 9.873,8.115 10.876,8.385
  rectangle: 9.873,8.615 10.876,8.885
  rectangle: -10.873,-8.885 -9.87,-8.615
  rectangle: -10.873,-8.385 -9.87,-8.115
  rectangle: -10.873,-7.885 -9.87,-7.615
  rectangle: -10.873,-7.385 -9.87,-7.115
  rectangle: -10.873,-6.885 -9.87,-6.615
  rectangle: -10.873,-6.385 -9.87,-6.115
  rectangle: -10.873,-5.885 -9.87,-5.615
  rectangle: -10.873,-5.385 -9.87,-5.115
  rectangle: -10.873,-4.885 -9.87,-4.615
  rectangle: -10.873,-4.385 -9.87,-4.115
  rectangle: -10.873,-3.885 -9.87,-3.615
  rectangle: -10.873,-3.385 -9.87,-3.115
  rectangle: -10.873,-2.885 -9.87,-2.615
  rectangle: -10.873,-2.385 -9.87,-2.115
  rectangle: -10.873,-1.885 -9.87,-1.615
  rectangle: -10.873,-1.385 -9.87,-1.115
  rectangle: -10.873,-0.885 -9.87,-0.615
  rectangle: -10.873,-0.385 -9.87,-0.115
  rectangle: -10.873,0.115 -9.87,0.385
  rectangle: -10.873,0.615 -9.87,0.885
  rectangle: -10.873,1.115 -9.87,1.385
  rectangle: -10.873,1.615 -9.87,1.885
  rectangle: -10.873,2.115 -9.87,2.385
  rectangle: -10.873,2.615 -9.87,2.885
  rectangle: -10.873,3.115 -9.87,3.385
  rectangle: -10.873,3.615 -9.87,3.885
  rectangle: -10.873,4.115 -9.87,4.385
  rectangle: -10.873,4.615 -9.87,4.885
  rectangle: -10.873,5.115 -9.87,5.385
  rectangle: -10.873,5.615 -9.87,5.885
  rectangle: -10.873,6.115 -9.87,6.385
  rectangle: -10.873,6.615 -9.87,6.885
  rectangle: -10.873,7.115 -9.87,7.385
  rectangle: -10.873,7.615 -9.87,7.885
  rectangle: -10.873,8.115 -9.87,8.385
  rectangle: -10.873,8.615 -9.87,8.885

## TQFP176 [mm]
pads (176):
  rect 0.23x1.5 smd: 1(-8.6,-10.75) 2(-8.2,-10.75) 3(-7.8,-10.75) 4(-7.4,-10.75) 5(-7,-10.75) 6(-6.6,-10.75) 7(-6.2,-10.75) 8(-5.8,-10.75) 9(-5.4,-10.75) 10(-5,-10.75) 11(-4.6,-10.75) 12(-4.2,-10.75) 13(-3.8,-10.75) 14(-3.4,-10.75) 15(-3,-10.75) 16(-2.6,-10.75) 17(-2.2,-10.75) 18(-1.8,-10.75) 19(-1.4,-10.75) 20(-1,-10.75) 21(-0.6,-10.75) 22(-0.2,-10.75) 23(0.2,-10.75) 24(0.6,-10.75) 25(1,-10.75) 26(1.4,-10.75) 27(1.8,-10.75) 28(2.2,-10.75) 29(2.6,-10.75) 30(3,-10.75) 31(3.4,-10.75) 32(3.8,-10.75) 33(4.2,-10.75) 34(4.6,-10.75) 35(5,-10.75) 36(5.4,-10.75) 37(5.8,-10.75) 38(6.2,-10.75) 39(6.6,-10.75) 40(7,-10.75) 41(7.4,-10.75) 42(7.8,-10.75) 43(8.2,-10.75) 44(8.6,-10.75) 89(8.6,10.75) 90(8.2,10.75) 91(7.8,10.75) 92(7.4,10.75) 93(7,10.75) 94(6.6,10.75) 95(6.2,10.75) 96(5.8,10.75) 97(5.4,10.75) 98(5,10.75) 99(4.6,10.75) 100(4.2,10.75) 101(3.8,10.75) 102(3.4,10.75) 103(3,10.75) 104(2.6,10.75) 105(2.2,10.75) 106(1.8,10.75) 107(1.4,10.75) 108(1,10.75) 109(0.6,10.75) 110(0.2,10.75) 111(-0.2,10.75) 112(-0.6,10.75) 113(-1,10.75) 114(-1.4,10.75) 115(-1.8,10.75) 116(-2.2,10.75) 117(-2.6,10.75) 118(-3,10.75) 119(-3.4,10.75) 120(-3.8,10.75) 121(-4.2,10.75) 122(-4.6,10.75) 123(-5,10.75) 124(-5.4,10.75) 125(-5.8,10.75) 126(-6.2,10.75) 127(-6.6,10.75) 128(-7,10.75) 129(-7.4,10.75) 130(-7.8,10.75) 131(-8.2,10.75) 132(-8.6,10.75)
  rect 1.5x0.23 smd: 45(10.75,-8.6) 46(10.75,-8.2) 47(10.75,-7.8) 48(10.75,-7.4) 49(10.75,-7) 50(10.75,-6.6) 51(10.75,-6.2) 52(10.75,-5.8) 53(10.75,-5.4) 54(10.75,-5) 55(10.75,-4.6) 56(10.75,-4.2) 57(10.75,-3.8) 58(10.75,-3.4) 59(10.75,-3) 60(10.75,-2.6) 61(10.75,-2.2) 62(10.75,-1.8) 63(10.75,-1.4) 64(10.75,-1) 65(10.75,-0.6) 66(10.75,-0.2) 67(10.75,0.2) 68(10.75,0.6) 69(10.75,1) 70(10.75,1.4) 71(10.75,1.8) 72(10.75,2.2) 73(10.75,2.6) 74(10.75,3) 75(10.75,3.4) 76(10.75,3.8) 77(10.75,4.2) 78(10.75,4.6) 79(10.75,5) 80(10.75,5.4) 81(10.75,5.8) 82(10.75,6.2) 83(10.75,6.6) 84(10.75,7) 85(10.75,7.4) 86(10.75,7.8) 87(10.75,8.2) 88(10.75,8.6) 133(-10.75,8.6) 134(-10.75,8.2) 135(-10.75,7.8) 136(-10.75,7.4) 137(-10.75,7) 138(-10.75,6.6) 139(-10.75,6.2) 140(-10.75,5.8) 141(-10.75,5.4) 142(-10.75,5) 143(-10.75,4.6) 144(-10.75,4.2) 145(-10.75,3.8) 146(-10.75,3.4) 147(-10.75,3) 148(-10.75,2.6) 149(-10.75,2.2) 150(-10.75,1.8) 151(-10.75,1.4) 152(-10.75,1) 153(-10.75,0.6) 154(-10.75,0.2) 155(-10.75,-0.2) 156(-10.75,-0.6) 157(-10.75,-1) 158(-10.75,-1.4) 159(-10.75,-1.8) 160(-10.75,-2.2) 161(-10.75,-2.6) 162(-10.75,-3) 163(-10.75,-3.4) 164(-10.75,-3.8) 165(-10.75,-4.2) 166(-10.75,-4.6) 167(-10.75,-5) 168(-10.75,-5.4) 169(-10.75,-5.8) 170(-10.75,-6.2) 171(-10.75,-6.6) 172(-10.75,-7) 173(-10.75,-7.4) 174(-10.75,-7.8) 175(-10.75,-8.2) 176(-10.75,-8.6)
Top Overlay:
  circle w0.152: c-7.5,-7.5 r1
  lines w0.152: -9.873,-8.873 -8.873,-9.873 9.873,-9.873 9.873,9.873 -9.873,9.873 -9.873,-8.873
Mechanical 16:
  drawing of 176 lines, arcs and shapes, not listed

## TQFP184 [mm]
pads (184):
  rect 0.23x1.5 smd: 1(-9,-10.75) 2(-8.6,-10.75) 3(-8.2,-10.75) 4(-7.8,-10.75) 5(-7.4,-10.75) 6(-7,-10.75) 7(-6.6,-10.75) 8(-6.2,-10.75) 9(-5.8,-10.75) 10(-5.4,-10.75) 11(-5,-10.75) 12(-4.6,-10.75) 13(-4.2,-10.75) 14(-3.8,-10.75) 15(-3.4,-10.75) 16(-3,-10.75) 17(-2.6,-10.75) 18(-2.2,-10.75) 19(-1.8,-10.75) 20(-1.4,-10.75) 21(-1,-10.75) 22(-0.6,-10.75) 23(-0.2,-10.75) 24(0.2,-10.75) 25(0.6,-10.75) 26(1,-10.75) 27(1.4,-10.75) 28(1.8,-10.75) 29(2.2,-10.75) 30(2.6,-10.75) 31(3,-10.75) 32(3.4,-10.75) 33(3.8,-10.75) 34(4.2,-10.75) 35(4.6,-10.75) 36(5,-10.75) 37(5.4,-10.75) 38(5.8,-10.75) 39(6.2,-10.75) 40(6.6,-10.75) 41(7,-10.75) 42(7.4,-10.75) 43(7.8,-10.75) 44(8.2,-10.75) 45(8.6,-10.75) 46(9,-10.75) 93(9,10.75) 94(8.6,10.75) 95(8.2,10.75) 96(7.8,10.75) 97(7.4,10.75) 98(7,10.75) 99(6.6,10.75) 100(6.2,10.75) 101(5.8,10.75) 102(5.4,10.75) 103(5,10.75) 104(4.6,10.75) 105(4.2,10.75) 106(3.8,10.75) 107(3.4,10.75) 108(3,10.75) 109(2.6,10.75) 110(2.2,10.75) 111(1.8,10.75) 112(1.4,10.75) 113(1,10.75) 114(0.6,10.75) 115(0.2,10.75) 116(-0.2,10.75) 117(-0.6,10.75) 118(-1,10.75) 119(-1.8,10.75) 120(-1.4,10.75) 121(-2.2,10.75) 122(-2.6,10.75) 123(-3,10.75) 124(-3.4,10.75) 125(-3.8,10.75) 126(-4.2,10.75) 127(-4.6,10.75) 128(-5,10.75) 129(-5.4,10.75) 130(-5.8,10.75) 131(-6.2,10.75) 132(-6.6,10.75) 133(-7,10.75) 134(-7.4,10.75) 135(-7.8,10.75) 136(-8.2,10.75) 137(-8.6,10.75) 138(-9,10.75)
  rect 1.5x0.23 smd: 47(10.75,-9) 48(10.75,-8.6) 49(10.75,-8.2) 50(10.75,-7.8) 51(10.75,-7.4) 52(10.75,-7) 53(10.75,-6.6) 54(10.75,-6.2) 55(10.75,-5.8) 56(10.75,-5.4) 57(10.75,-5) 58(10.75,-4.6) 59(10.75,-4.2) 60(10.75,-3.8) 61(10.75,-3.4) 62(10.75,-3) 63(10.75,-2.6) 64(10.75,-2.2) 65(10.75,-1.8) 66(10.75,-1.4) 67(10.75,-1) 68(10.75,-0.6) 69(10.75,-0.2) 70(10.75,0.2) 71(10.75,0.6) 72(10.75,1) 73(10.75,1.8) 74(10.75,1.4) 75(10.75,2.2) 76(10.75,2.6) 77(10.75,3) 78(10.75,3.4) 79(10.75,3.8) 80(10.75,4.2) 81(10.75,4.6) 82(10.75,5) 83(10.75,5.4) 84(10.75,5.8) 85(10.75,6.2) 86(10.75,6.6) 87(10.75,7) 88(10.75,7.4) 89(10.75,7.8) 90(10.75,8.2) 91(10.75,8.6) 92(10.75,9) 139(-10.75,9) 140(-10.75,8.6) 141(-10.75,8.2) 142(-10.75,7.8) 143(-10.75,7.4) 144(-10.75,7) 145(-10.75,6.6) 146(-10.75,6.2) 147(-10.75,5.8) 148(-10.75,5.4) 149(-10.75,5) 150(-10.75,4.6) 151(-10.75,4.2) 152(-10.75,3.8) 153(-10.75,3.4) 154(-10.75,3) 155(-10.75,2.6) 156(-10.75,2.2) 157(-10.75,1.8) 158(-10.75,1.4) 159(-10.75,1) 160(-10.75,0.6) 161(-10.75,0.2) 162(-10.75,-0.2) 163(-10.75,-0.6) 164(-10.75,-1) 165(-10.75,-1.8) 166(-10.75,-1.4) 167(-10.75,-2.2) 168(-10.75,-2.6) 169(-10.75,-3) 170(-10.75,-3.4) 171(-10.75,-3.8) 172(-10.75,-4.2) 173(-10.75,-4.6) 174(-10.75,-5) 175(-10.75,-5.4) 176(-10.75,-5.8) 177(-10.75,-6.2) 178(-10.75,-6.6) 179(-10.75,-7) 180(-10.75,-7.4) 181(-10.75,-7.8) 182(-10.75,-8.2) 183(-10.75,-8.6) 184(-10.75,-9)
Top Overlay:
  circle w0.152: c-7.5,-7.3 r1
  lines w0.152: -9.873,-9.123 -9.123,-9.873 9.873,-9.873 9.873,9.873 -9.873,9.873 -9.873,-9.123
Mechanical 16:
  drawing of 184 lines, arcs and shapes, not listed